# EAGLE library part PIXHAWK2_FM25V01 (library PX4FMUv2.4)
FM25V01 128Kb Serial 3V F-RAM Memory
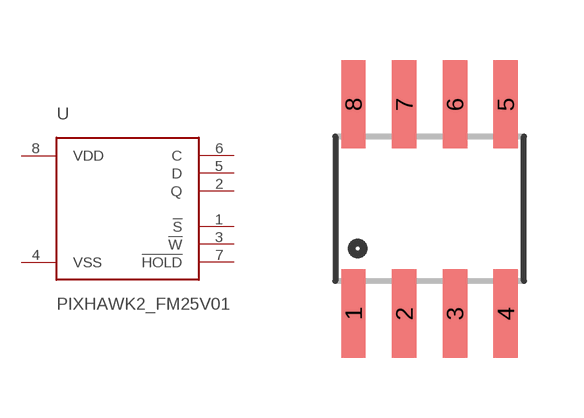
[diagram p8: symbol with the pads of PIXHAWK2_SO08; footprint PIXHAWK2_SO08]

Designator prefix -

## PIXHAWK2_FM25V01 (DATASHEET: http://www.ramtron.com/files/datasheets/FM25V01_ds.pdf; LINK: http://www.digikey.com/product-detail/en/FM25V01-GTR/1140-1026-1-ND/2809832; MFGPN: FM25V01)  [PIXHAWK2_SO08]
1  !S
2  Q
3  !W
4  VSS
5  D
6  C
7  !HOLD
8  VDD

## Footprint PIXHAWK2_SO08 (pad centres in mm)
Small Outline Package Fits JEDEC packages (narrow SOIC-8)
smd 0.61 x 2.21: 1 -1.905,-2.616; 2 -0.635,-2.616; 3 0.635,-2.616; 4 1.905,-2.616; 5 1.905,2.616; 6 0.635,2.616; 7 -0.635,2.616; 8 -1.905,2.616